# EAGLE library part LS20 (library LS10Series)
LS10 Series Switch Features Eliminates switch bounce Utilizes Adsptive NoBounce technology High level of noise immunity Eliminates < 20 ms noise spikes Low impednce 25 mA totem pole output/channel May be used in 2-position toggle switch On/Off applications General Description The LogiSwitch LS10 Series of High Noise Immunity Debouncer/Noise Filter ICs was designed for trouble-free use in the most severe electrically hostile environments. The LS10 Series of LogiSwitch debouncer/noise filter chips features low-impedance 25 mA totem-pole outputs for each channel. Outputs and inputs are of the same polarity and may be selected for use as active high or active low. The LS10 Series utilizes LogiSwitch’s proprietary NoBounce™ technology resulting in a high level of noise immunity. Noise spikes of less than 20 ms duration are prohibited from starting or terminating a cycle. The input of each channel includes an internal pull-up resistor so the SPST interface requires just one pin (NO or COM) tied to ground and the other to a channel input of the device. All outputs are delayed for a period of 20 ms + bounce time on both activation and release regardless of the bounce duration. The factory LogiSwitch http://www.logiswitch.com Where to buy? https://www.rcscomponents.com/product/LS120-P.html <https://www.rcscomponents.com/product/LS20-P.html> https://www.rcscomponents.com/product/LS20-S.html
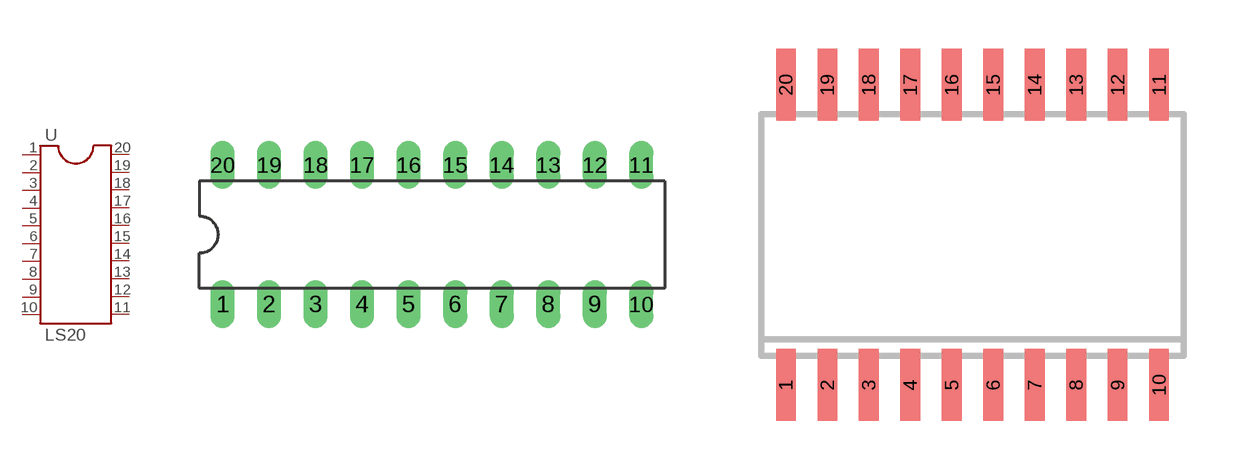
[diagram p2: symbol with the pads of DIL20; footprints DIL20, SO20W]

Designator prefix -

## LS20-P  [DIL20]
1  VDD  pas
2  SW0  pas
3  SW1  pas
4  SW2  pas
5  SW3  pas
6  SW4  pas
7  SW5  pas
8  SW6  pas
9  SW7  pas
10  SW8  pas
11  OUT8  pas
12  OUT7  pas
13  OUT6  pas
14  OUT5  pas
15  OUT4  pas
16  OUT3  pas
17  OUT2  pas
18  OUT1  pas
19  OUT0  pas
20  VSS  pas

## LS20-S  [SO20W]
Pads as for DIL20

## Footprint DIL20 (pad centres in mm)
Dual In Line Package
drill 0.813 long: 1 -11.43,-3.81; 2 -8.89,-3.81; 3 -6.35,-3.81; 4 -3.81,-3.81; 5 -1.27,-3.81; 6 1.27,-3.81; 7 3.81,-3.81; 8 6.35,-3.81; 9 8.89,-3.81; 10 11.43,-3.81; 11 11.43,3.81; 12 8.89,3.81; 13 6.35,3.81; 14 3.81,3.81; 15 1.27,3.81; 16 -1.27,3.81; 17 -3.81,3.81; 18 -6.35,3.81; 19 -8.89,3.81; 20 -11.43,3.81

## Footprint SO20W (pad centres in mm)
SMALL OUTLINE INTEGRATED CIRCUIT wide body 7.5 mm/JEDEC MS-013AC
smd 0.6 x 2.2: 1 -5.715,-4.6; 2 -4.445,-4.6; 3 -3.175,-4.6; 4 -1.905,-4.6; 5 -0.635,-4.6; 6 0.635,-4.6; 7 1.905,-4.6; 8 3.175,-4.6; 9 4.445,-4.6; 10 5.715,-4.6; 11 5.715,4.6; 12 4.445,4.6; 13 3.175,4.6; 14 1.905,4.6; 15 0.635,4.6; 16 -0.635,4.6; 17 -1.905,4.6; 18 -3.175,4.6; 19 -4.445,4.6; 20 -5.715,4.6